# Altium schematic symbol library 3_pin_Header_Sch.SchLib: 1 symbol
Pins are listed as number, name and electrical type; pins without a type are passive.

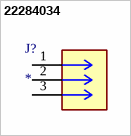
[diagram p0: symbol 22284034]

## 22284034
designator J?
MP: 22284034; Package: None; Price: None; Value: *; Availability: Unavailable
footprint CONN_SD-42375-001_M320_03_MOL
pins: 1, 2, 3